# Altium footprint library Discrete_Passive.PcbLib: 313 footprints (part 12 of 20)
Each footprint in its own frame and in the unit in brackets; x right, y up, seen from the top. Pads: shape width x height; smd on the part's side, far side on the other; paste and mask are expansions set on the pad; w line width, h text height; cw(c..) or ccw(c..) is an arc to the next point about the centre after c.
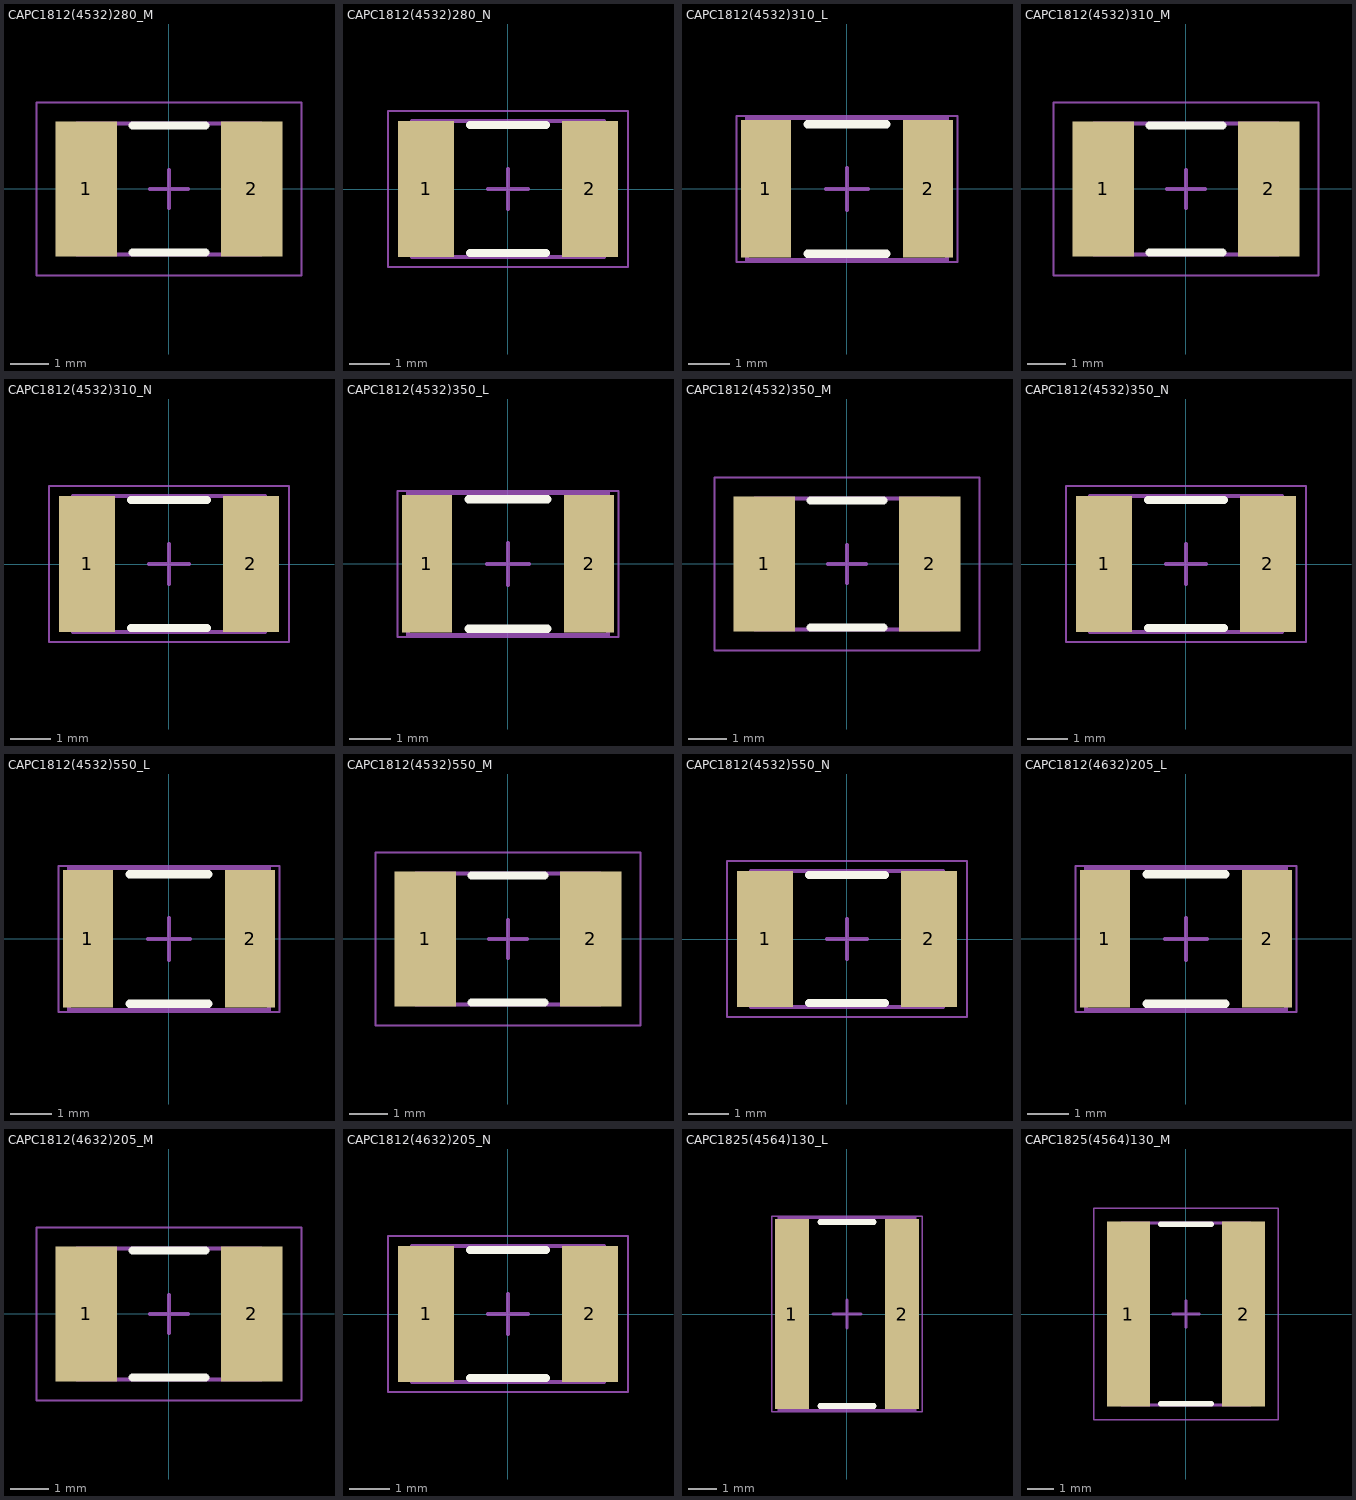
[diagram p11: the footprints below, top view; thin cyan lines are the x and y axes]

## CAPC1812(4532)280_M [mm] "Chip Capacitor, Body 4.5x3.2mm, Height 2.8mm, IPC Low Density"
height 2.8
pads (2):
  rect 1.6x3.5 smd: 1(-2.15,0) 2(2.15,0)
Top Overlay:
  lines w0.2: -0.95,-1.65 0.95,-1.65 ; -0.95,1.65 0.95,1.65
Mechanical 13:
  lines w0.1: -2.4,-1.7 2.4,-1.7 2.4,1.7 -2.4,1.7 -2.4,-1.7
Mechanical 15:
  lines w0.05: -3.45,-2.25 3.45,-2.25 3.45,2.25 -3.45,2.25 -3.45,-2.25
  lines w0.1: -0.5,0 0.5,0 ; 0,-0.5 0,0.5
3D body: height 2.8, standoff 0, extent 1.8,-1.7 2.4,1.7
3D body: height 2.8, standoff 0, extent -2.4,-1.7 -1.8,1.7
3D body: height 2.8, standoff 0, extent -1.8,-1.7 1.8,1.7

## CAPC1812(4532)280_N [mm] "Chip Capacitor, Body 4.5x3.2mm, Height 2.8mm, IPC Medium Density"
height 2.8
pads (2):
  rect 1.4x3.4 smd: 1(-2.05,0) 2(2.05,0)
Top Overlay:
  lines w0.2: -0.95,-1.6 0.95,-1.6 ; -0.95,1.6 0.95,1.6
Mechanical 13:
  lines w0.1: -2.4,-1.7 2.4,-1.7 2.4,1.7 -2.4,1.7 -2.4,-1.7
Mechanical 15:
  lines w0.05: -3,-1.95 3,-1.95 3,1.95 -3,1.95 -3,-1.95
  lines w0.1: -0.5,0 0.5,0 ; 0,-0.5 0,0.5
3D body: height 2.8, standoff 0, extent 1.8,-1.7 2.4,1.7
3D body: height 2.8, standoff 0, extent -2.4,-1.7 -1.8,1.7
3D body: height 2.8, standoff 0, extent -1.8,-1.7 1.8,1.7

## CAPC1812(4532)310_L [mm] "Chip Capacitor, Body 4.5x3.2mm, Height 3.1mm, IPC High Density"
height 3.1
pads (2):
  rect 1.2x3.3 smd: 1(-1.95,0) 2(1.95,0)
Top Overlay:
  lines w0.2: -0.95,-1.55 0.95,-1.55 ; -0.95,1.55 0.95,1.55
Mechanical 13:
  lines w0.1: -2.4,-1.7 2.4,-1.7 2.4,1.7 -2.4,1.7 -2.4,-1.7
Mechanical 15:
  lines w0.05: -2.65,-1.75 2.65,-1.75 2.65,1.75 -2.65,1.75 -2.65,-1.75
  lines w0.1: -0.5,0 0.5,0 ; 0,-0.5 0,0.5
3D body: height 3.1, standoff 0, extent 1.8,-1.7 2.4,1.7
3D body: height 3.1, standoff 0, extent -2.4,-1.7 -1.8,1.7
3D body: height 3.1, standoff 0, extent -1.8,-1.7 1.8,1.7

## CAPC1812(4532)310_M [mm] "Chip Capacitor, Body 4.5x3.2mm, Height 3.1mm, IPC Low Density"
height 3.1
pads (2):
  rect 1.6x3.5 smd: 1(-2.15,0) 2(2.15,0)
Top Overlay:
  lines w0.2: -0.95,-1.65 0.95,-1.65 ; -0.95,1.65 0.95,1.65
Mechanical 13:
  lines w0.1: -2.4,-1.7 2.4,-1.7 2.4,1.7 -2.4,1.7 -2.4,-1.7
Mechanical 15:
  lines w0.05: -3.45,-2.25 3.45,-2.25 3.45,2.25 -3.45,2.25 -3.45,-2.25
  lines w0.1: -0.5,0 0.5,0 ; 0,-0.5 0,0.5
3D body: height 3.1, standoff 0, extent 1.8,-1.7 2.4,1.7
3D body: height 3.1, standoff 0, extent -2.4,-1.7 -1.8,1.7
3D body: height 3.1, standoff 0, extent -1.8,-1.7 1.8,1.7

## CAPC1812(4532)310_N [mm] "Chip Capacitor, Body 4.5x3.2mm, Height 3.1mm, IPC Medium Density"
height 3.1
pads (2):
  rect 1.4x3.4 smd: 1(-2.05,0) 2(2.05,0)
Top Overlay:
  lines w0.2: -0.95,-1.6 0.95,-1.6 ; -0.95,1.6 0.95,1.6
Mechanical 13:
  lines w0.1: -2.4,-1.7 2.4,-1.7 2.4,1.7 -2.4,1.7 -2.4,-1.7
Mechanical 15:
  lines w0.05: -3,-1.95 3,-1.95 3,1.95 -3,1.95 -3,-1.95
  lines w0.1: -0.5,0 0.5,0 ; 0,-0.5 0,0.5
3D body: height 3.1, standoff 0, extent 1.8,-1.7 2.4,1.7
3D body: height 3.1, standoff 0, extent -2.4,-1.7 -1.8,1.7
3D body: height 3.1, standoff 0, extent -1.8,-1.7 1.8,1.7

## CAPC1812(4532)350_L [mm] "Chip Capacitor, Body 4.5x3.2mm, Height 3.5mm, IPC High Density"
height 3.5
pads (2):
  rect 1.2x3.3 smd: 1(-1.95,0) 2(1.95,0)
Top Overlay:
  lines w0.2: -0.95,-1.55 0.95,-1.55 ; -0.95,1.55 0.95,1.55
Mechanical 13:
  lines w0.1: -2.4,-1.7 2.4,-1.7 2.4,1.7 -2.4,1.7 -2.4,-1.7
Mechanical 15:
  lines w0.05: -2.65,-1.75 2.65,-1.75 2.65,1.75 -2.65,1.75 -2.65,-1.75
  lines w0.1: -0.5,0 0.5,0 ; 0,-0.5 0,0.5
3D body: height 3.5, standoff 0, extent 1.8,-1.7 2.4,1.7
3D body: height 3.5, standoff 0, extent -2.4,-1.7 -1.8,1.7
3D body: height 3.5, standoff 0, extent -1.8,-1.7 1.8,1.7

## CAPC1812(4532)350_M [mm] "Chip Capacitor, Body 4.5x3.2mm, Height 3.5mm, IPC Low Density"
height 3.5
pads (2):
  rect 1.6x3.5 smd: 1(-2.15,0) 2(2.15,0)
Top Overlay:
  lines w0.2: -0.95,-1.65 0.95,-1.65 ; -0.95,1.65 0.95,1.65
Mechanical 13:
  lines w0.1: -2.4,-1.7 2.4,-1.7 2.4,1.7 -2.4,1.7 -2.4,-1.7
Mechanical 15:
  lines w0.05: -3.45,-2.25 3.45,-2.25 3.45,2.25 -3.45,2.25 -3.45,-2.25
  lines w0.1: -0.5,0 0.5,0 ; 0,-0.5 0,0.5
3D body: height 3.5, standoff 0, extent 1.8,-1.7 2.4,1.7
3D body: height 3.5, standoff 0, extent -2.4,-1.7 -1.8,1.7
3D body: height 3.5, standoff 0, extent -1.8,-1.7 1.8,1.7

## CAPC1812(4532)350_N [mm] "Chip Capacitor, Body 4.5x3.2mm, Height 3.5mm, IPC Medium Density"
height 3.5
pads (2):
  rect 1.4x3.4 smd: 1(-2.05,0) 2(2.05,0)
Top Overlay:
  lines w0.2: -0.95,-1.6 0.95,-1.6 ; -0.95,1.6 0.95,1.6
Mechanical 13:
  lines w0.1: -2.4,-1.7 2.4,-1.7 2.4,1.7 -2.4,1.7 -2.4,-1.7
Mechanical 15:
  lines w0.05: -3,-1.95 3,-1.95 3,1.95 -3,1.95 -3,-1.95
  lines w0.1: -0.5,0 0.5,0 ; 0,-0.5 0,0.5
3D body: height 3.5, standoff 0, extent 1.8,-1.7 2.4,1.7
3D body: height 3.5, standoff 0, extent -2.4,-1.7 -1.8,1.7
3D body: height 3.5, standoff 0, extent -1.8,-1.7 1.8,1.7

## CAPC1812(4532)550_L [mm] "Chip Capacitor, Body 4.5x3.2mm, Height 5.5mm, IPC High Density"
height 5.5
pads (2):
  rect 1.2x3.3 smd: 1(-1.95,0) 2(1.95,0)
Top Overlay:
  lines w0.2: -0.95,-1.55 0.95,-1.55 ; -0.95,1.55 0.95,1.55
Mechanical 13:
  lines w0.1: -2.4,-1.7 2.4,-1.7 2.4,1.7 -2.4,1.7 -2.4,-1.7
Mechanical 15:
  lines w0.05: -2.65,-1.75 2.65,-1.75 2.65,1.75 -2.65,1.75 -2.65,-1.75
  lines w0.1: -0.5,0 0.5,0 ; 0,-0.5 0,0.5
3D body: height 5.5, standoff 0, extent 1.8,-1.7 2.4,1.7
3D body: height 5.5, standoff 0, extent -2.4,-1.7 -1.8,1.7
3D body: height 5.5, standoff 0, extent -1.8,-1.7 1.8,1.7

## CAPC1812(4532)550_M [mm] "Chip Capacitor, Body 4.5x3.2mm, Height 5.5mm, IPC Low Density"
height 5.5
pads (2):
  rect 1.6x3.5 smd: 1(-2.15,0) 2(2.15,0)
Top Overlay:
  lines w0.2: -0.95,-1.65 0.95,-1.65 ; -0.95,1.65 0.95,1.65
Mechanical 13:
  lines w0.1: -2.4,-1.7 2.4,-1.7 2.4,1.7 -2.4,1.7 -2.4,-1.7
Mechanical 15:
  lines w0.05: -3.45,-2.25 3.45,-2.25 3.45,2.25 -3.45,2.25 -3.45,-2.25
  lines w0.1: -0.5,0 0.5,0 ; 0,-0.5 0,0.5
3D body: height 5.5, standoff 0, extent 1.8,-1.7 2.4,1.7
3D body: height 5.5, standoff 0, extent -2.4,-1.7 -1.8,1.7
3D body: height 5.5, standoff 0, extent -1.8,-1.7 1.8,1.7

## CAPC1812(4532)550_N [mm] "Chip Capacitor, Body 4.5x3.2mm, Height 5.5mm, IPC Medium Density"
height 5.5
pads (2):
  rect 1.4x3.4 smd: 1(-2.05,0) 2(2.05,0)
Top Overlay:
  lines w0.2: -0.95,-1.6 0.95,-1.6 ; -0.95,1.6 0.95,1.6
Mechanical 13:
  lines w0.1: -2.4,-1.7 2.4,-1.7 2.4,1.7 -2.4,1.7 -2.4,-1.7
Mechanical 15:
  lines w0.05: -3,-1.95 3,-1.95 3,1.95 -3,1.95 -3,-1.95
  lines w0.1: -0.5,0 0.5,0 ; 0,-0.5 0,0.5
3D body: height 5.5, standoff 0, extent 1.8,-1.7 2.4,1.7
3D body: height 5.5, standoff 0, extent -2.4,-1.7 -1.8,1.7
3D body: height 5.5, standoff 0, extent -1.8,-1.7 1.8,1.7

## CAPC1812(4632)205_L [mm] "Chip Capacitor, Body 4.5x3.2mm, Height 2.05mm, IPC High Density"
height 2.05
pads (2):
  rect 1.2x3.3 smd: 1(-1.95,0) 2(1.95,0)
Top Overlay:
  lines w0.2: -0.95,-1.55 0.95,-1.55 ; -0.95,1.55 0.95,1.55
Mechanical 13:
  lines w0.1: -2.4,-1.7 2.4,-1.7 2.4,1.7 -2.4,1.7 -2.4,-1.7
Mechanical 15:
  lines w0.05: -2.65,-1.75 2.65,-1.75 2.65,1.75 -2.65,1.75 -2.65,-1.75
  lines w0.1: -0.5,0 0.5,0 ; 0,-0.5 0,0.5
3D body: height 2.05, standoff 0, extent 1.8,-1.7 2.4,1.7
3D body: height 2.05, standoff 0, extent -2.4,-1.7 -1.8,1.7
3D body: height 2.05, standoff 0, extent -1.8,-1.7 1.8,1.7

## CAPC1812(4632)205_M [mm] "Chip Capacitor, Body 4.5x3.2mm, Height 2.05mm, IPC Low Density"
height 2.05
pads (2):
  rect 1.6x3.5 smd: 1(-2.15,0) 2(2.15,0)
Top Overlay:
  lines w0.2: -0.95,-1.65 0.95,-1.65 ; -0.95,1.65 0.95,1.65
Mechanical 13:
  lines w0.1: -2.4,-1.7 2.4,-1.7 2.4,1.7 -2.4,1.7 -2.4,-1.7
Mechanical 15:
  lines w0.05: -3.45,-2.25 3.45,-2.25 3.45,2.25 -3.45,2.25 -3.45,-2.25
  lines w0.1: -0.5,0 0.5,0 ; 0,-0.5 0,0.5
3D body: height 2.05, standoff 0, extent 1.8,-1.7 2.4,1.7
3D body: height 2.05, standoff 0, extent -2.4,-1.7 -1.8,1.7
3D body: height 2.05, standoff 0, extent -1.8,-1.7 1.8,1.7

## CAPC1812(4632)205_N [mm] "Chip Capacitor, Body 4.5x3.2mm, Height 2.05mm, IPC Medium Density"
height 2.05
pads (2):
  rect 1.4x3.4 smd: 1(-2.05,0) 2(2.05,0)
Top Overlay:
  lines w0.2: -0.95,-1.6 0.95,-1.6 ; -0.95,1.6 0.95,1.6
Mechanical 13:
  lines w0.1: -2.4,-1.7 2.4,-1.7 2.4,1.7 -2.4,1.7 -2.4,-1.7
Mechanical 15:
  lines w0.05: -3,-1.95 3,-1.95 3,1.95 -3,1.95 -3,-1.95
  lines w0.1: -0.5,0 0.5,0 ; 0,-0.5 0,0.5
3D body: height 2.05, standoff 0, extent 1.8,-1.7 2.4,1.7
3D body: height 2.05, standoff 0, extent -2.4,-1.7 -1.8,1.7
3D body: height 2.05, standoff 0, extent -1.8,-1.7 1.8,1.7

## CAPC1825(4564)130_L [mm] "Chip Capacitor, Body 4.5x6.4mm, Height 1.3mm, IPC High Density"
height 1.3
pads (2):
  rect 1.2x6.7 smd: 1(-1.95,0) 2(1.95,0)
Top Overlay:
  lines w0.2: -0.95,-3.25 0.95,-3.25 ; -0.95,3.25 0.95,3.25
Mechanical 13:
  lines w0.1: -2.4,-3.4 2.4,-3.4 2.4,3.4 -2.4,3.4 -2.4,-3.4
Mechanical 15:
  lines w0.05: -2.65,-3.45 2.65,-3.45 2.65,3.45 -2.65,3.45 -2.65,-3.45
  lines w0.1: -0.5,0 0.5,0 ; 0,-0.5 0,0.5
3D body: height 1.3, standoff 0, extent 1.8,-3.4 2.4,3.4
3D body: height 1.3, standoff 0, extent -2.4,-3.4 -1.8,3.4
3D body: height 1.3, standoff 0, extent -1.8,-3.4 1.8,3.4

## CAPC1825(4564)130_M [mm] "Chip Capacitor, Body 4.5x6.4mm, Height 1.3mm, IPC Low Density"
height 1.3
pads (2):
  rect 1.6x6.9 smd: 1(-2.15,0) 2(2.15,0)
Top Overlay:
  lines w0.2: -0.95,-3.35 0.95,-3.35 ; -0.95,3.35 0.95,3.35
Mechanical 13:
  lines w0.1: -2.4,-3.4 2.4,-3.4 2.4,3.4 -2.4,3.4 -2.4,-3.4
Mechanical 15:
  lines w0.05: -3.45,-3.95 3.45,-3.95 3.45,3.95 -3.45,3.95 -3.45,-3.95
  lines w0.1: -0.5,0 0.5,0 ; 0,-0.5 0,0.5
3D body: height 1.3, standoff 0, extent 1.8,-3.4 2.4,3.4
3D body: height 1.3, standoff 0, extent -2.4,-3.4 -1.8,3.4
3D body: height 1.3, standoff 0, extent -1.8,-3.4 1.8,3.4